# Altium schematic symbol library FT_lib.SchLib: 27 symbols
Pins are listed as number, name and electrical type; pins without a type are passive.

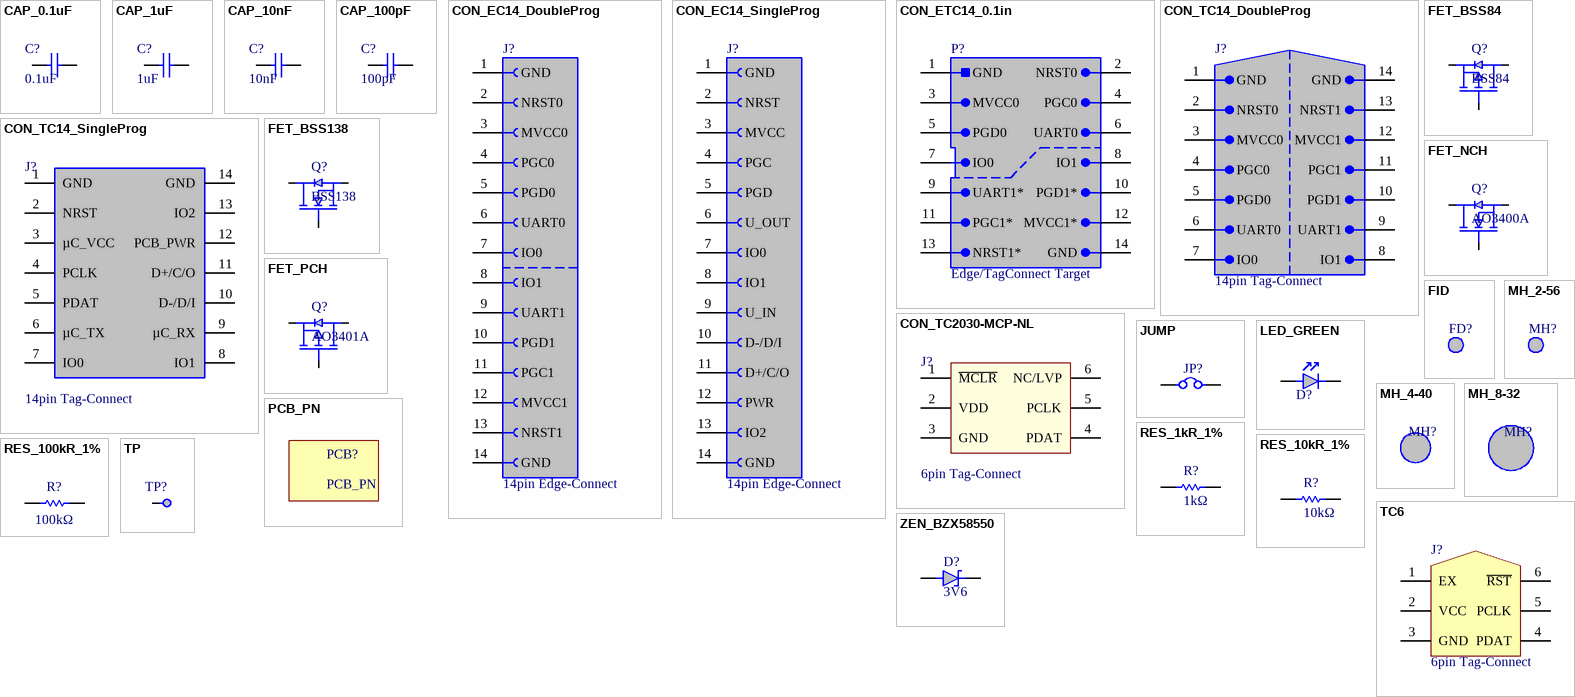
[diagram p0: symbols CAP_0.1uF to ZEN_BZX58550]

## CAP_0.1uF
designator C?, comment 0.1uF
0.1uF Ceramic Capacitor; MPN1: GCM155R71C104KA55D; TempCoef: X7R; Capacitance: 0.1uF; Size: 0402
footprint CAPC1005X06N (Chip Capacitor, 2-Leads, Body 1.05x0.53mm, IPC Medium Density)
pins: 1, 2

## CAP_1uF
designator C?, comment 1uF
1uF Ceramic Capacitor; MPN1: GCJ188R71E105KA1D; TempCoef: X7R; Capacitance: 1uF; Size: 0603
footprint CAPC1608X10L (Chip Capacitor, 2-Leads, Body 1.65x0.83mm, IPC High Density)
pins: 1, 2

## CAP_10nF
designator C?, comment 10nF
10nF Ceramic Capacitor; MPN1: GCM155R71E103KA37D; TempCoef: X7R; Capacitance: 10nF; Size: 0402
footprint CAPC1005X06N (Chip Capacitor, 2-Leads, Body 1.05x0.53mm, IPC Medium Density)
pins: 1, 2

## CAP_100pF
designator C?, comment 100pF
100pF Ceramic Capacitor; MPN1: GCM1555C1H101JA16D; TempCoef: C0G; Capacitance: 100pF; Size: 0402
footprint CAPC1005X06N (Chip Capacitor, 2-Leads, Body 1.05x0.53mm, IPC Medium Density)
pins: 1, 2

## CON_EC14_DoubleProg
designator J?, comment 14pin Edge-Connect  (no BOM)
14pin Edge-Connect with both programming interfaces
footprint EC-14-2AP (EdgeConnect14)
pins: 1    GND, 2    NRST0, 3    MVCC0, 4    PGC0, 5    PGD0, 6    UART0, 7    IO0, 8    IO1, 9    UART1, 10    PGD1, 11    PGC1, 12    MVCC1, 13    NRST1, 14    GND    

## CON_EC14_SingleProg
designator J?, comment 14pin Edge-Connect  (no BOM)
14pin Edge-Connect with single programming interface
footprint EC-14-2AP (EdgeConnect14)
pins: 1    GND, 2    NRST, 3    MVCC, 4    PGC, 5    PGD, 6    U_OUT, 7    IO0, 8    IO1, 9    U_IN, 10    D-/D/I, 11    D+/C/O, 12    PWR, 13    IO2, 14    GND    

## CON_ETC14_0.1in
designator P?, comment Edge/TagConnect Target
14pin Edge/Tag-Connect Cable 0.1" Male Header For (Programmer/Debugger side, not target board side)
footprint ETC14_0.1IN (0.1" 2 row 14 pin header for the edge/tag connect)
pins: 1     GND, 2 NRST0    , 3     MVCC0, 4 PGC0    , 5     PGD0, 6 UART0    , 7     IO0, 8 IO1    , 9     UART1*, 10 PGD1*    , 11     PGC1*, 12 MVCC1*    , 13     NRST1*, 14 GND    

## CON_TC14_DoubleProg
designator J?, comment 14pin Tag-Connect  (no BOM)
14pin Tag-Connect with both programming interfaces
footprint TC2070-NL (Target for Tag Connect TC2070-xxx-NL)
footprint TC2070 (Target for Tag Connect TC2070)
pins: 1     GND, 2     NRST0, 3     MVCC0, 4     PGC0, 5     PGD0, 6     UART0, 7     IO0, 8 IO1    , 9 UART1    , 10 PGD1    , 11 PGC1    , 12 MVCC1    , 13 NRST1    , 14 GND    

## CON_TC14_SingleProg
designator J?, comment 14pin Tag-Connect  (no BOM)
14pin Tag-Connect with single programming interface
footprint TC2070-NL (Target for Tag Connect TC2070-xxx-NL)
footprint TC2070 (Target for Tag Connect TC2070)
pins: 1 GND, 2 NRST, 3 µC_VCC, 4 PCLK, 5 PDAT, 6 µC_TX, 7 IO0, 8 IO1, 9 µC_RX, 10 D-/D/I, 11 D+/C/O, 12 PCB_PWR, 13 IO2, 14 GND

## CON_TC2030-MCP-NL
designator J?, comment 6pin Tag-Connect  (no BOM)
6pin Tag-Connect with Locator holes - no snap holes
footprint TC2030-MCP-NL (Target for Tag Connect TC2030 with Locator Holes)
pins: 1 ~{MCLR}, 2 VDD, 3 GND, 4 PDAT, 5 PCLK, 6 NC/LVP

## FET_BSS84
designator Q?, comment BSS84
P-Channel 50 V 130mA (Ta) 225mW (Ta) Surface Mount Die; MFG1: Diodes Incorporated; MPN1: BSS84; MPN3: *; Drain-SourceVoltage: *; Current: *; Gate-SourceVoltage: *
footprint SOT90P240X115-3N (SOT23, 3-Leads, Body 2.90x2.40mm, Pitch 0.90mm, IPC Medium Density)
pins: 1 GATE, 2 SOURCE, 3 DRAIN

## FET_BSS138
designator Q?, comment BSS138
N-Channel 50 V 220mA (Ta) 350mW (Ta) Surface Mount SOT-23; MPN1: BSS138; MPN2: *; MPN3: *; Drain-SourceVoltage: *; Current: *; Gate-SourceVoltage: *
footprint SOT90P240X115-3N (SOT23, 3-Leads, Body 2.90x2.40mm, Pitch 0.90mm, IPC Medium Density)
pins: 1 GATE, 2 SOURCE, 3 DRAIN

## FET_NCH
designator Q?, comment AO3400A
MOSFET N-CH 30V 5.7A SOT23-3L; Gate-SourceVoltage: +-12V; MPN1: AO3400A; MFG2: Alpha & Omega Semiconductor Inc.; Drain-SourceVoltage: 30V; Current: 5.7A
footprint SOT90P240X115-3N (SOT23, 3-Leads, Body 2.90x2.40mm, Pitch 0.90mm, IPC Medium Density)
pins: 1 GATE, 2 SOURCE, 3 DRAIN

## FET_PCH
designator Q?, comment AO3401A
MOSFET P-CH 30V 4A SOT23-3L; MFG1: Alpha & Omega Semiconductor Inc.; Gate-SourceVoltage: +-12V; MPN1: AO3401A; Drain-SourceVoltage: 30V; Current: 4A
footprint SOT90P240X115-3N (SOT23, 3-Leads, Body 2.90x2.40mm, Pitch 0.90mm, IPC Medium Density)
pins: 1 GATE, 2 SOURCE, 3 DRAIN

## FID
designator FD?  (no BOM)
Fiducial, Generic
footprint FID_50MIL (50mil diameter fiducial)

## JUMP
designator JP?  (value not drawn)  (net tie, no BOM)
2 pin connected jumper/cut trace
footprint JP_C2 (Connected jumper (with reverse side trace))
pins: 1, 2

## LED_GREEN
designator D?, comment LTST-C171GKT  (value not drawn)
Diode, Light emitting, Green; MPN1: LTST-C171GKT; ForwardVoltage: *; ForwardCurrent: *; Color: Green
footprint DIL_0805
pins: 1 + / CATHODE, 2 - / ANODE

## MH_2-56
designator MH?  (no BOM)
Mounting Hole for 2-56 or M2 Standoff Screw Size
footprint MH_2-56 (Mounting Hole for 2-56 or M2 Standoff Screw Size)

## MH_4-40
designator MH?  (no BOM)
Mounting Hole for 4-40 or M3 Standoff Screw Size
footprint MH_4-40 (Mounting Hole for 4-40 or M3 Standoff Screw Size)

## MH_8-32
designator MH?  (no BOM)
Mounting Hole for 8-32 or M4 Standoff Screw Size
footprint MH_8-32 (Mounting Hole for 8-32 or M4 Standoff Screw Size)

## PCB_PN
designator PCB?  (mechanical)
BARE PCB FOR PROJ NAME; MFR1: *; MPN1: *; MPN2: PCBPN0.0; MFR2: ANDRITZ

## RES_1kR_1%
designator R?, comment 1kΩ
1kΩ 1% Resistor; MPN1: ERJ-2RKF1001X; Resistance: 1kΩ; Tolerance: 1%; Size: 0402
footprint RESC1005X04N (Chip Resistor, 2-Leads, Body 1.00x0.50mm, IPC Medium Density)
footprint RESC1608X06L (Chip Resistor, 2-Leads, Body 1.60x0.83mm, IPC High Density)
footprint RESC2012X07N (Chip Resistor, 2-Leads, Body 2.00x1.25mm, IPC Medium Density)
pins: 1, 2

## RES_10kR_1%
designator R?, comment 10kΩ
10kΩ 1% Resistor; MPN1: ERJ-2RKF1002X; Resistance: 10kΩ; Tolerance: 1%; Size: 0402
footprint RESC1005X04N (Chip Resistor, 2-Leads, Body 1.00x0.50mm, IPC Medium Density)
footprint RESC1608X06L (Chip Resistor, 2-Leads, Body 1.60x0.83mm, IPC High Density)
footprint RESC2012X07N (Chip Resistor, 2-Leads, Body 2.00x1.25mm, IPC Medium Density)
pins: 1, 2

## RES_100kR_1%
designator R?, comment 100kΩ
100kΩ 1% Resistor; MPN1: ERJ-2RKF1003X; Resistance: 100kΩ; Tolerance: 1%; Size: 0402
footprint RESC1005X04N (Chip Resistor, 2-Leads, Body 1.00x0.50mm, IPC Medium Density)
footprint RESC1608X06L (Chip Resistor, 2-Leads, Body 1.60x0.83mm, IPC High Density)
footprint RESC2012X07N (Chip Resistor, 2-Leads, Body 2.00x1.25mm, IPC Medium Density)
pins: 1, 2

## TC6
designator J?, comment 6pin Tag-Connect  (no BOM)
footprint TC2030-NL (Target for Tag Connect TC2030)
pins: 1 EX, 2 VCC, 3 GND, 4 PDAT, 5 PCLK, 6 ~{RST}

## TP
designator TP?, comment Surface Mount  (value not drawn)
footprint TP_1MM_SM (1MM Surface Mount TP)
footprint TP_0.5MM_SM (0.5MM Surface Mount TP)
footprint TP_40MIL_TH (PC TEST POINT MINIATURE BLACK)
pins: 1

## ZEN_BZX58550
designator D?, comment 3V6
Zener Diode 3.6 V 300 mW ±5% Surface Mount SOD-523; MPN1: BZX58550-C3V6X; MFG1: Nexperia USA Inc.; Voltage: 3V6
footprint SODFL160X65-2N (SODFL, 2-Leads, Body 0.80x1.60mm, IPC Medium Density)
pins: 1 +, 2 -